# EAGLE library part HE3621S (library relay)
RELAY reed, 1 x norm. open with shield, grid 5.08 mm, Hamlin
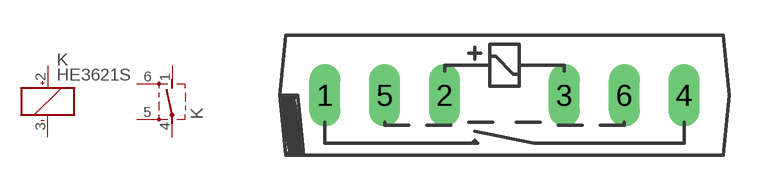
[diagram p27: symbol with the pads of HE3621S; footprint HE3621S]

Designator prefix K; gates 1=K+- 2=S_M2

## HE3621S  [HE3621S]
1  2:S  pas
2  1:+  pas
3  1:-  pas
4  2:P  pas
5  2:ES  pas
6  2:ES  pas

## Footprint HE3621S (pad centres in mm)
RELAY reed, 1 x norm. open with shield, grid 5.08 mm, Hamlin
drill 0.813 long: 1 -7.62,0; 2 -2.54,0; 3 2.54,0; 4 7.62,0; 5 -5.08,0; 6 5.08,0